# Altium footprint library Connector_Samtec_MicroPower.PcbLib: 36 footprints (part 2 of 3)
Each footprint in its own frame and in the unit in brackets; x right, y up, seen from the top. Pads: shape width x height; smd on the part's side, far side on the other; paste and mask are expansions set on the pad; w line width, h text height; cw(c..) or ccw(c..) is an arc to the next point about the centre after c.
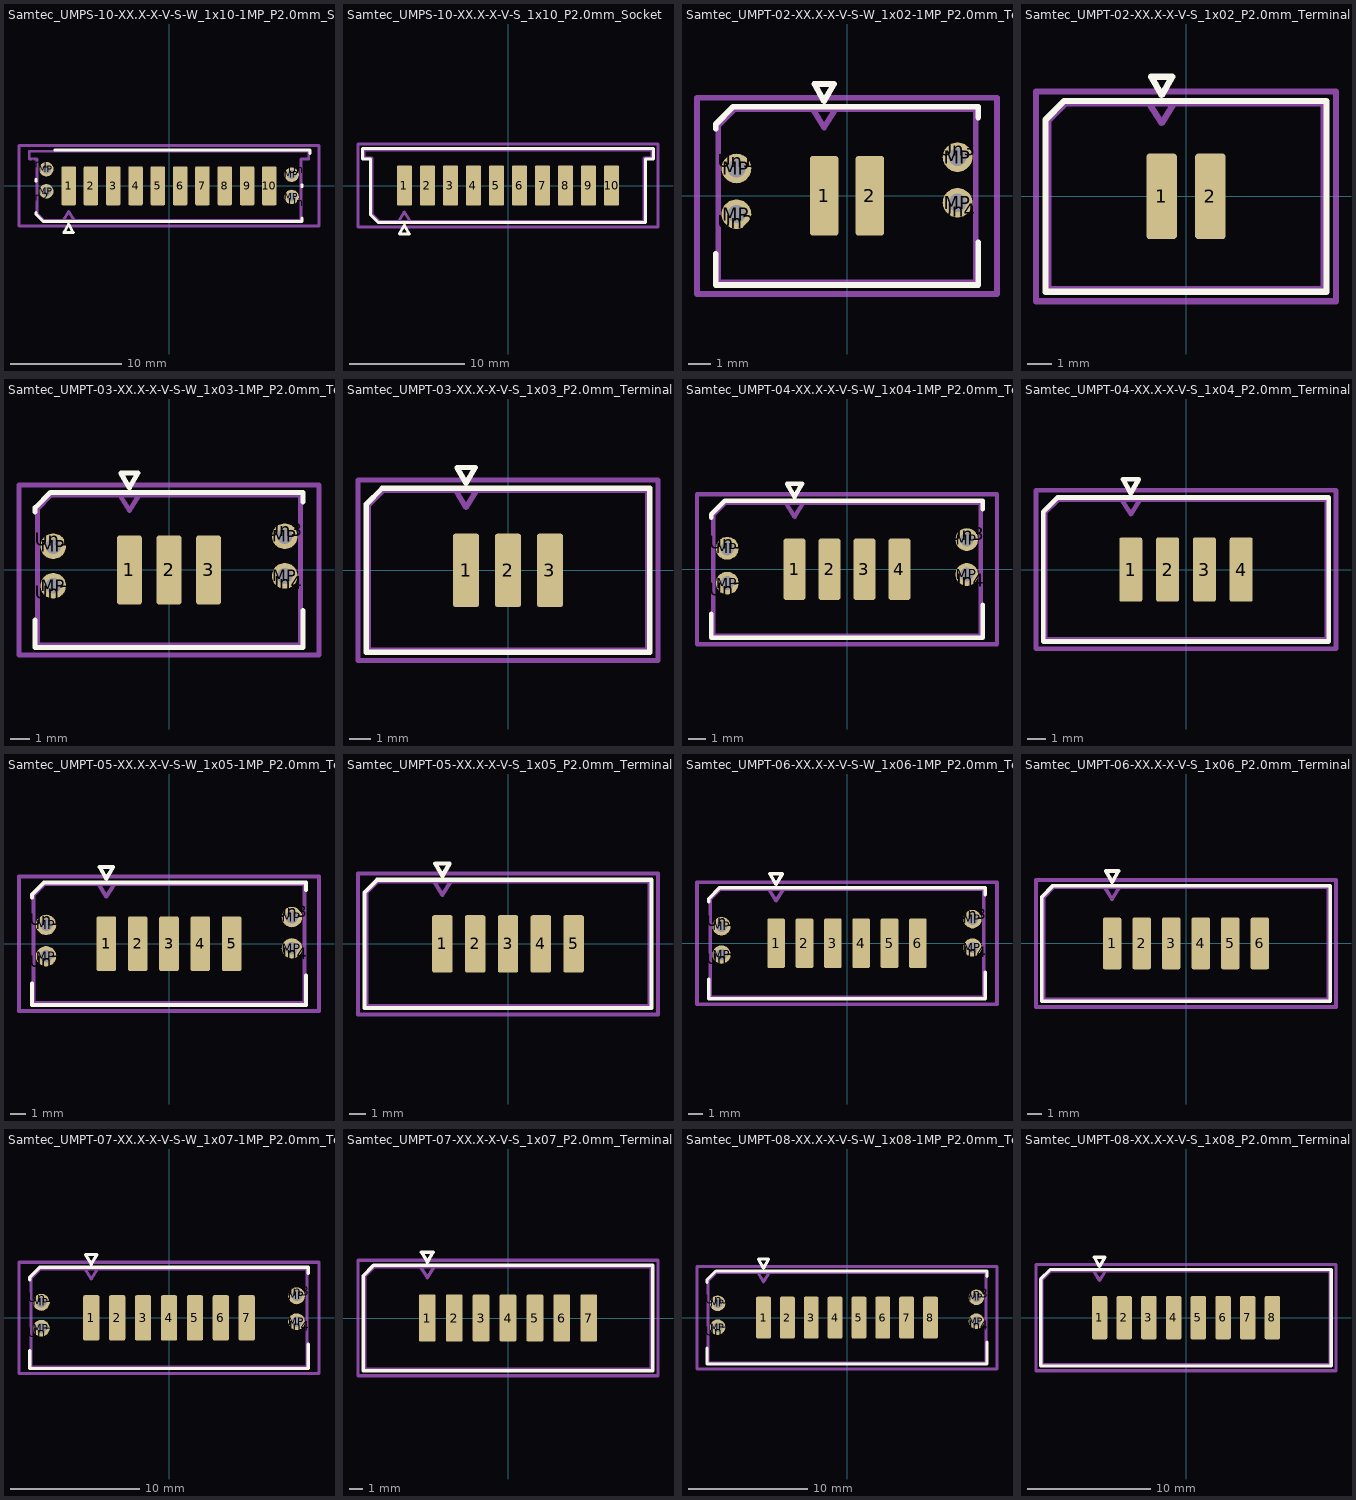
[diagram p1: the footprints below, top view; thin cyan lines are the x and y axes]

## Samtec_UMPS-10-XX.X-X-V-S-W_1x10-1MP_P2.0mm_Socket_WeldTab [mm]
pads (18):
  rrect19% 1.3x3.5 smd: 1(-9,0) 2(-7,0) 3(-5,0) 4(-3,0) 5(-1,0) 6(1,0) 7(3,0) 8(5,0) 9(7,0) 10(9,0)
  round 1.3 hole 0.8: MP(-11,-0.5) MP(-11,1.5) MP(11,-1) MP(11,1)
  rect 2.45x2.28 on Top Paste: Un1(-11.725,1.99) Un2(-11.725,-0.99) Un3(11.725,1.49) Un4(11.725,-1.49)
F.SilkS:
  lines w0.254: -11.935,-2.39 -11.935,-2.546 -11.271,-3.21 11.935,-3.21 11.935,-2.89 ; -11.935,0.41 -11.935,0.59 ; -10.24,3.21 12.635,3.21 12.635,2.89 ; 11.935,-0.09 11.935,0.09 ; -9.433,-4.2 -8.567,-4.2 -9,-3.45 -9.433,-4.2
Top Assembly:
  lines w0.254: -9.5,-3.1 -9,-2.3 -8.5,-3.1 ; -12.525,2.4 -11.825,2.4 -11.825,-2.5 -11.225,-3.1 11.825,-3.1 11.825,2.4 12.525,2.4 12.525,3.1 -12.525,3.1 -12.525,2.4
  text "'.Designator'" at -4.047,-0.84 h1
Top Courtyard:
  lines w0.254: -13.45,-3.6 13.45,-3.6 13.45,3.63 -13.45,3.63 -13.45,-3.6
Top Designator:
  text ".Designator" at -7.618,-0.793 h1.52

## Samtec_UMPS-10-XX.X-X-V-S_1x10_P2.0mm_Socket [mm]
pads (10):
  rrect19% 1.3x3.5 smd: 1(-9,0) 2(-7,0) 3(-5,0) 4(-3,0) 5(-1,0) 6(1,0) 7(3,0) 8(5,0) 9(7,0) 10(9,0)
F.SilkS:
  lines w0.254: -12.635,2.29 -11.935,2.29 -11.935,-2.546 -11.271,-3.21 11.935,-3.21 11.935,2.29 12.635,2.29 12.635,3.21 -12.635,3.21 -12.635,2.29 ; -9.433,-4.2 -8.567,-4.2 -9,-3.45 -9.433,-4.2
Top Assembly:
  lines w0.254: -9.5,-3.1 -9,-2.3 -8.5,-3.1 ; -12.525,2.4 -11.825,2.4 -11.825,-2.5 -11.225,-3.1 11.825,-3.1 11.825,2.4 12.525,2.4 12.525,3.1 -12.525,3.1 -12.525,2.4
  text "'.Designator'" at -4.047,-0.84 h1
Top Courtyard:
  lines w0.254: -13.03,-3.6 13.03,-3.6 13.03,3.6 -13.03,3.6 -13.03,-3.6
Top Designator:
  text ".Designator" at -7.618,-0.808 h1.52

## Samtec_UMPT-02-XX.X-X-V-S-W_1x02-1MP_P2.0mm_Terminal_WeldTab [mm]
pads (10):
  rrect20% 1.25x3.5 smd: 1(-1,0) 2(1,0)
  round 1.3 hole 0.8: MP(-4.85,-0.8) MP(-4.85,1.2) MP(4.85,-0.3) MP(4.85,1.7)
  rect 2.45x2.28 on Top Paste: Un1(-4.85,1.54) Un2(-4.85,-1.14) Un3(4.85,2.04) Un4(4.85,-0.64)
F.SilkS:
  lines w0.254: -5.76,-2.54 -5.76,-3.91 5.76,-3.91 5.76,-2.04 ; -5.76,2.94 -5.76,3.146 -4.996,3.91 5.76,3.91 5.76,3.44 ; -1.433,4.9 -0.567,4.9 -1,4.15 -1.433,4.9
Top Assembly:
  lines w0.254: -1.5,3.8 -1,3 -0.5,3.8 ; -5.65,-3.8 5.65,-3.8 5.65,3.8 -4.95,3.8 -5.65,3.1 -5.65,-3.8
  text "'.Designator'" at -4.047,-0.84 h1
Top Courtyard:
  lines w0.254: -6.58,-4.3 6.58,-4.3 6.58,4.3 -6.58,4.3 -6.58,-4.3
Top Designator:
  text ".Designator" at -7.618,-0.208 h1.52

## Samtec_UMPT-02-XX.X-X-V-S_1x02_P2.0mm_Terminal [mm]
pads (2):
  rrect20% 1.25x3.5 smd: 1(-1,0) 2(1,0)
F.SilkS:
  lines w0.254: -5.76,-3.91 5.76,-3.91 5.76,3.91 -4.996,3.91 -5.76,3.146 -5.76,-3.91 ; -1.433,4.9 -0.567,4.9 -1,4.15 -1.433,4.9
Top Assembly:
  lines w0.254: -1.5,3.8 -1,3 -0.5,3.8 ; -5.65,-3.8 5.65,-3.8 5.65,3.8 -4.95,3.8 -5.65,3.1 -5.65,-3.8
  text "'.Designator'" at -4.047,-0.84 h1
Top Courtyard:
  lines w0.254: -6.15,-4.3 6.15,-4.3 6.15,4.3 -6.15,4.3 -6.15,-4.3
Top Designator:
  text ".Designator" at -7.618,-0.208 h1.52

## Samtec_UMPT-03-XX.X-X-V-S-W_1x03-1MP_P2.0mm_Terminal_WeldTab [mm]
pads (11):
  rrect20% 1.25x3.5 smd: 1(-2,0) 2(0,0) 3(2,0)
  round 1.3 hole 0.8: MP(-5.85,-0.8) MP(-5.85,1.2) MP(5.85,-0.3) MP(5.85,1.7)
  rect 2.45x2.28 on Top Paste: Un1(-5.85,1.54) Un2(-5.85,-1.14) Un3(5.85,2.04) Un4(5.85,-0.64)
F.SilkS:
  lines w0.254: -6.76,-2.54 -6.76,-3.91 6.76,-3.91 6.76,-2.04 ; -6.76,2.94 -6.76,3.146 -5.996,3.91 6.76,3.91 6.76,3.44 ; -2.433,4.9 -1.567,4.9 -2,4.15 -2.433,4.9
Top Assembly:
  lines w0.254: -2.5,3.8 -2,3 -1.5,3.8 ; -6.65,-3.8 6.65,-3.8 6.65,3.8 -5.95,3.8 -6.65,3.1 -6.65,-3.8
  text "'.Designator'" at -4.047,-0.84 h1
Top Courtyard:
  lines w0.254: -7.58,-4.3 7.58,-4.3 7.58,4.3 -7.58,4.3 -7.58,-4.3
Top Designator:
  text ".Designator" at -7.618,-0.208 h1.52

## Samtec_UMPT-03-XX.X-X-V-S_1x03_P2.0mm_Terminal [mm]
pads (3):
  rrect20% 1.25x3.5 smd: 1(-2,0) 2(0,0) 3(2,0)
F.SilkS:
  lines w0.254: -6.76,-3.91 6.76,-3.91 6.76,3.91 -5.996,3.91 -6.76,3.146 -6.76,-3.91 ; -2.433,4.9 -1.567,4.9 -2,4.15 -2.433,4.9
Top Assembly:
  lines w0.254: -2.5,3.8 -2,3 -1.5,3.8 ; -6.65,-3.8 6.65,-3.8 6.65,3.8 -5.95,3.8 -6.65,3.1 -6.65,-3.8
  text "'.Designator'" at -4.047,-0.84 h1
Top Courtyard:
  lines w0.254: -7.15,-4.3 7.15,-4.3 7.15,4.3 -7.15,4.3 -7.15,-4.3
Top Designator:
  text ".Designator" at -7.618,-0.208 h1.52

## Samtec_UMPT-04-XX.X-X-V-S-W_1x04-1MP_P2.0mm_Terminal_WeldTab [mm]
pads (12):
  rrect20% 1.25x3.5 smd: 1(-3,0) 2(-1,0) 3(1,0) 4(3,0)
  round 1.3 hole 0.8: MP(-6.85,-0.8) MP(-6.85,1.2) MP(6.85,-0.3) MP(6.85,1.7)
  rect 2.45x2.28 on Top Paste: Un1(-6.85,1.54) Un2(-6.85,-1.14) Un3(6.85,2.04) Un4(6.85,-0.64)
F.SilkS:
  lines w0.254: -7.76,-2.54 -7.76,-3.91 7.76,-3.91 7.76,-2.04 ; -7.76,2.94 -7.76,3.146 -6.996,3.91 7.76,3.91 7.76,3.44 ; -3.433,4.9 -2.567,4.9 -3,4.15 -3.433,4.9
Top Assembly:
  lines w0.254: -3.5,3.8 -3,3 -2.5,3.8 ; -7.65,-3.8 7.65,-3.8 7.65,3.8 -6.95,3.8 -7.65,3.1 -7.65,-3.8
  text "'.Designator'" at -4.047,-0.84 h1
Top Courtyard:
  lines w0.254: -8.58,-4.3 8.58,-4.3 8.58,4.3 -8.58,4.3 -8.58,-4.3
Top Designator:
  text ".Designator" at -7.618,-0.208 h1.52

## Samtec_UMPT-04-XX.X-X-V-S_1x04_P2.0mm_Terminal [mm]
pads (4):
  rrect20% 1.25x3.5 smd: 1(-3,0) 2(-1,0) 3(1,0) 4(3,0)
F.SilkS:
  lines w0.254: -7.76,-3.91 7.76,-3.91 7.76,3.91 -6.996,3.91 -7.76,3.146 -7.76,-3.91 ; -3.433,4.9 -2.567,4.9 -3,4.15 -3.433,4.9
Top Assembly:
  lines w0.254: -3.5,3.8 -3,3 -2.5,3.8 ; -7.65,-3.8 7.65,-3.8 7.65,3.8 -6.95,3.8 -7.65,3.1 -7.65,-3.8
  text "'.Designator'" at -4.047,-0.84 h1
Top Courtyard:
  lines w0.254: -8.15,-4.3 8.15,-4.3 8.15,4.3 -8.15,4.3 -8.15,-4.3
Top Designator:
  text ".Designator" at -7.618,-0.208 h1.52

## Samtec_UMPT-05-XX.X-X-V-S-W_1x05-1MP_P2.0mm_Terminal_WeldTab [mm]
pads (13):
  rrect20% 1.25x3.5 smd: 1(-4,0) 2(-2,0) 3(0,0) 4(2,0) 5(4,0)
  round 1.3 hole 0.8: MP(-7.85,-0.8) MP(-7.85,1.2) MP(7.85,-0.3) MP(7.85,1.7)
  rect 2.45x2.28 on Top Paste: Un1(-7.85,1.54) Un2(-7.85,-1.14) Un3(7.85,2.04) Un4(7.85,-0.64)
F.SilkS:
  lines w0.254: -8.76,-2.54 -8.76,-3.91 8.76,-3.91 8.76,-2.04 ; -8.76,2.94 -8.76,3.146 -7.996,3.91 8.76,3.91 8.76,3.44 ; -4.433,4.9 -3.567,4.9 -4,4.15 -4.433,4.9
Top Assembly:
  lines w0.254: -4.5,3.8 -4,3 -3.5,3.8 ; -8.65,-3.8 8.65,-3.8 8.65,3.8 -7.95,3.8 -8.65,3.1 -8.65,-3.8
  text "'.Designator'" at -4.047,-0.84 h1
Top Courtyard:
  lines w0.254: -9.58,-4.3 9.58,-4.3 9.58,4.3 -9.58,4.3 -9.58,-4.3
Top Designator:
  text ".Designator" at -7.618,-0.208 h1.52

## Samtec_UMPT-05-XX.X-X-V-S_1x05_P2.0mm_Terminal [mm]
pads (5):
  rrect20% 1.25x3.5 smd: 1(-4,0) 2(-2,0) 3(0,0) 4(2,0) 5(4,0)
F.SilkS:
  lines w0.254: -8.76,-3.91 8.76,-3.91 8.76,3.91 -7.996,3.91 -8.76,3.146 -8.76,-3.91 ; -4.433,4.9 -3.567,4.9 -4,4.15 -4.433,4.9
Top Assembly:
  lines w0.254: -4.5,3.8 -4,3 -3.5,3.8 ; -8.65,-3.8 8.65,-3.8 8.65,3.8 -7.95,3.8 -8.65,3.1 -8.65,-3.8
  text "'.Designator'" at -4.047,-0.84 h1
Top Courtyard:
  lines w0.254: -9.15,-4.3 9.15,-4.3 9.15,4.3 -9.15,4.3 -9.15,-4.3
Top Designator:
  text ".Designator" at -7.618,-0.208 h1.52

## Samtec_UMPT-06-XX.X-X-V-S-W_1x06-1MP_P2.0mm_Terminal_WeldTab [mm]
pads (14):
  rrect20% 1.25x3.5 smd: 1(-5,0) 2(-3,0) 3(-1,0) 4(1,0) 5(3,0) 6(5,0)
  round 1.3 hole 0.8: MP(-8.85,-0.8) MP(-8.85,1.2) MP(8.85,-0.3) MP(8.85,1.7)
  rect 2.45x2.28 on Top Paste: Un1(-8.85,1.54) Un2(-8.85,-1.14) Un3(8.85,2.04) Un4(8.85,-0.64)
F.SilkS:
  lines w0.254: -9.76,-2.54 -9.76,-3.91 9.76,-3.91 9.76,-2.04 ; -9.76,2.94 -9.76,3.146 -8.996,3.91 9.76,3.91 9.76,3.44 ; -5.433,4.9 -4.567,4.9 -5,4.15 -5.433,4.9
Top Assembly:
  lines w0.254: -5.5,3.8 -5,3 -4.5,3.8 ; -9.65,-3.8 9.65,-3.8 9.65,3.8 -8.95,3.8 -9.65,3.1 -9.65,-3.8
  text "'.Designator'" at -4.047,-0.84 h1
Top Courtyard:
  lines w0.254: -10.58,-4.3 10.58,-4.3 10.58,4.3 -10.58,4.3 -10.58,-4.3
Top Designator:
  text ".Designator" at -7.618,-0.208 h1.52

## Samtec_UMPT-06-XX.X-X-V-S_1x06_P2.0mm_Terminal [mm]
pads (6):
  rrect20% 1.25x3.5 smd: 1(-5,0) 2(-3,0) 3(-1,0) 4(1,0) 5(3,0) 6(5,0)
F.SilkS:
  lines w0.254: -9.76,-3.91 9.76,-3.91 9.76,3.91 -8.996,3.91 -9.76,3.146 -9.76,-3.91 ; -5.433,4.9 -4.567,4.9 -5,4.15 -5.433,4.9
Top Assembly:
  lines w0.254: -5.5,3.8 -5,3 -4.5,3.8 ; -9.65,-3.8 9.65,-3.8 9.65,3.8 -8.95,3.8 -9.65,3.1 -9.65,-3.8
  text "'.Designator'" at -4.047,-0.84 h1
Top Courtyard:
  lines w0.254: -10.15,-4.3 10.15,-4.3 10.15,4.3 -10.15,4.3 -10.15,-4.3
Top Designator:
  text ".Designator" at -7.618,-0.208 h1.52

## Samtec_UMPT-07-XX.X-X-V-S-W_1x07-1MP_P2.0mm_Terminal_WeldTab [mm]
pads (15):
  rrect20% 1.25x3.5 smd: 1(-6,0) 2(-4,0) 3(-2,0) 4(0,0) 5(2,0) 6(4,0) 7(6,0)
  round 1.3 hole 0.8: MP(-9.85,-0.8) MP(-9.85,1.2) MP(9.85,-0.3) MP(9.85,1.7)
  rect 2.45x2.28 on Top Paste: Un1(-9.85,1.54) Un2(-9.85,-1.14) Un3(9.85,2.04) Un4(9.85,-0.64)
F.SilkS:
  lines w0.254: -10.76,-2.54 -10.76,-3.91 10.76,-3.91 10.76,-2.04 ; -10.76,2.94 -10.76,3.146 -9.996,3.91 10.76,3.91 10.76,3.44 ; -6.433,4.9 -5.567,4.9 -6,4.15 -6.433,4.9
Top Assembly:
  lines w0.254: -6.5,3.8 -6,3 -5.5,3.8 ; -10.65,-3.8 10.65,-3.8 10.65,3.8 -9.95,3.8 -10.65,3.1 -10.65,-3.8
  text "'.Designator'" at -4.047,-0.84 h1
Top Courtyard:
  lines w0.254: -11.58,-4.3 11.58,-4.3 11.58,4.3 -11.58,4.3 -11.58,-4.3
Top Designator:
  text ".Designator" at -7.618,-0.208 h1.52

## Samtec_UMPT-07-XX.X-X-V-S_1x07_P2.0mm_Terminal [mm]
pads (7):
  rrect20% 1.25x3.5 smd: 1(-6,0) 2(-4,0) 3(-2,0) 4(0,0) 5(2,0) 6(4,0) 7(6,0)
F.SilkS:
  lines w0.254: -10.76,-3.91 10.76,-3.91 10.76,3.91 -9.996,3.91 -10.76,3.146 -10.76,-3.91 ; -6.433,4.9 -5.567,4.9 -6,4.15 -6.433,4.9
Top Assembly:
  lines w0.254: -6.5,3.8 -6,3 -5.5,3.8 ; -10.65,-3.8 10.65,-3.8 10.65,3.8 -9.95,3.8 -10.65,3.1 -10.65,-3.8
  text "'.Designator'" at -4.047,-0.84 h1
Top Courtyard:
  lines w0.254: -11.15,-4.3 11.15,-4.3 11.15,4.3 -11.15,4.3 -11.15,-4.3
Top Designator:
  text ".Designator" at -7.618,-0.208 h1.52

## Samtec_UMPT-08-XX.X-X-V-S-W_1x08-1MP_P2.0mm_Terminal_WeldTab [mm]
pads (16):
  rrect20% 1.25x3.5 smd: 1(-7,0) 2(-5,0) 3(-3,0) 4(-1,0) 5(1,0) 6(3,0) 7(5,0) 8(7,0)
  round 1.3 hole 0.8: MP(-10.85,-0.8) MP(-10.85,1.2) MP(10.85,-0.3) MP(10.85,1.7)
  rect 2.45x2.28 on Top Paste: Un1(-10.85,1.54) Un2(-10.85,-1.14) Un3(10.85,2.04) Un4(10.85,-0.64)
F.SilkS:
  lines w0.254: -11.76,-2.54 -11.76,-3.91 11.76,-3.91 11.76,-2.04 ; -11.76,2.94 -11.76,3.146 -10.996,3.91 11.76,3.91 11.76,3.44 ; -7.433,4.9 -6.567,4.9 -7,4.15 -7.433,4.9
Top Assembly:
  lines w0.254: -7.5,3.8 -7,3 -6.5,3.8 ; -11.65,-3.8 11.65,-3.8 11.65,3.8 -10.95,3.8 -11.65,3.1 -11.65,-3.8
  text "'.Designator'" at -4.047,-0.84 h1
Top Courtyard:
  lines w0.254: -12.58,-4.3 12.58,-4.3 12.58,4.3 -12.58,4.3 -12.58,-4.3
Top Designator:
  text ".Designator" at -7.618,-0.208 h1.52

## Samtec_UMPT-08-XX.X-X-V-S_1x08_P2.0mm_Terminal [mm]
pads (8):
  rrect20% 1.25x3.5 smd: 1(-7,0) 2(-5,0) 3(-3,0) 4(-1,0) 5(1,0) 6(3,0) 7(5,0) 8(7,0)
F.SilkS:
  lines w0.254: -11.76,-3.91 11.76,-3.91 11.76,3.91 -10.996,3.91 -11.76,3.146 -11.76,-3.91 ; -7.433,4.9 -6.567,4.9 -7,4.15 -7.433,4.9
Top Assembly:
  lines w0.254: -7.5,3.8 -7,3 -6.5,3.8 ; -11.65,-3.8 11.65,-3.8 11.65,3.8 -10.95,3.8 -11.65,3.1 -11.65,-3.8
  text "'.Designator'" at -4.047,-0.84 h1
Top Courtyard:
  lines w0.254: -12.15,-4.3 12.15,-4.3 12.15,4.3 -12.15,4.3 -12.15,-4.3
Top Designator:
  text ".Designator" at -7.618,-0.208 h1.52